# Altium footprint library radio-modules.PcbLib: 1 footprints
Each footprint in its own frame and in the unit in brackets; x right, y up, seen from the top. Pads: shape width x height; smd on the part's side, far side on the other; paste and mask are expansions set on the pad; w line width, h text height; cw(c..) or ccw(c..) is an arc to the next point about the centre after c.
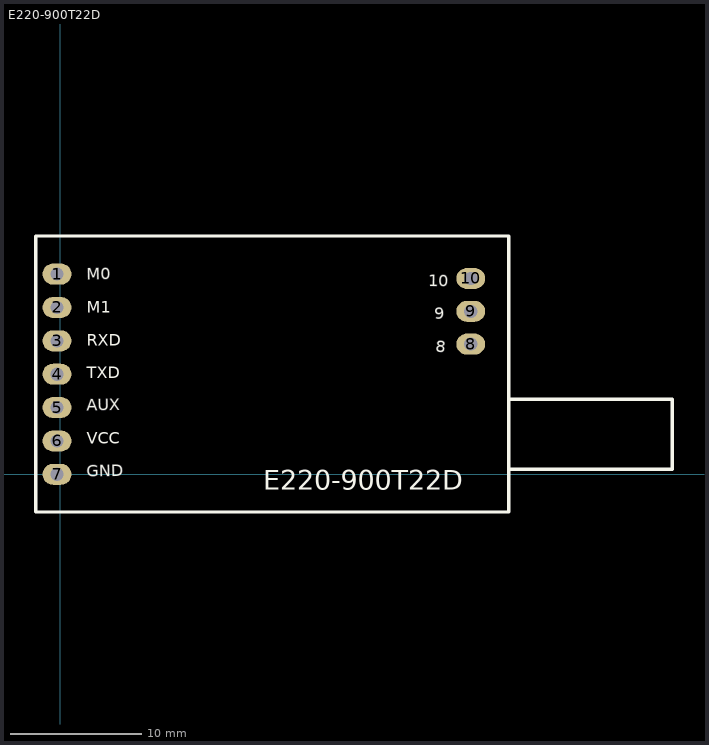
[diagram p0: the footprint, top view; thin cyan lines are the x and y axes]

## E220-900T22D [mm]
pads (10):
  oval 2.2x1.6 hole 1 paste-2539.97 mask+0.102: 1(-0.254,15.24) 2(-0.254,12.7) 3(-0.254,10.16) 4(-0.254,7.62) 5(-0.254,5.08) 6(-0.254,2.54) 7(-0.254,0) 8(31.242,9.906) 9(31.242,12.406) 10(31.242,14.906)
Top Overlay:
  lines w0.254: -1.867,-2.865 34.133,-2.865 34.133,18.135 -1.867,18.135 -1.867,-2.865 ; 34.133,0.385 46.579,0.385 46.579,5.719 34.133,5.719 34.133,0.385
  text "10" at 28,14.017 h1.5
  text "9" at 28.499,11.517 h1.5
  text "8" at 28.502,9.017 h1.5
  text "E220-900T22D" at 15.443,-1.194 h1.5
  text "GND" at 2,-0.483 h1.5
  text "VCC" at 2.001,2.017 h1.5
  text "AUX" at 2,4.517 h1.5
  text "TXD" at 2,7 h1.5
  text "RXD" at 2,9.5 h1.5
  text "M0" at 2,14.517 h1.5
  text "M1" at 2,12 h1.5
3D body "E220-xxxT22D(3D).step": height 7.7, standoff -4.93, extent -1.778,-2.88 44.442,18.12